# Altium schematic symbol library MB0025A.01.A.2.SchLib: 1 symbol
Pins are listed as number, name and electrical type; pins without a type are passive.

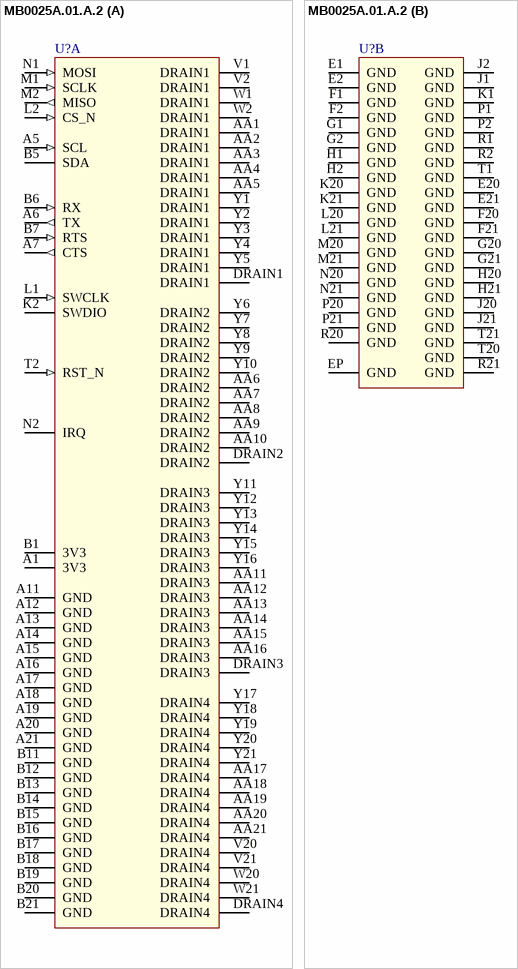
[diagram p0: symbol MB0025A.01.A.2]

## MB0025A.01.A.2
designator U?
part A pins: A1 3V3, A5 SCL (in), A6 TX (out), A7 CTS (out), A11 GND, A12 GND, A13 GND, A14 GND, A15 GND, A16 GND, A17 GND, A18 GND, A19 GND, A20 GND, A21 GND, AA1 DRAIN1, AA2 DRAIN1, AA3 DRAIN1, AA4 DRAIN1, AA5 DRAIN1, AA6 DRAIN2, AA7 DRAIN2, AA8 DRAIN2, AA9 DRAIN2, AA10 DRAIN2, AA11 DRAIN3, AA12 DRAIN3, AA13 DRAIN3, AA14 DRAIN3, AA15 DRAIN3, AA16 DRAIN3, AA17 DRAIN4, AA18 DRAIN4, AA19 DRAIN4, AA20 DRAIN4, AA21 DRAIN4, B1 3V3, B5 SDA, B6 RX (in), B7 RTS (in), B11 GND, B12 GND, B13 GND, B14 GND, B15 GND, B16 GND, B17 GND, B18 GND, B19 GND, B20 GND, B21 GND, DRAIN1, DRAIN2, DRAIN3, DRAIN4, K2 SWDIO, L1 SWCLK (in), L2 CS_N (in), M1 SCLK (in), M2 MISO (out), N1 MOSI (in), N2 IRQ, T2 RST_N (in), V1 DRAIN1, V2 DRAIN1, V20 DRAIN4, V21 DRAIN4, W1 DRAIN1, W2 DRAIN1, W20 DRAIN4, W21 DRAIN4, Y1 DRAIN1, Y2 DRAIN1, Y3 DRAIN1, Y4 DRAIN1, Y5 DRAIN1, Y6 DRAIN2, Y7 DRAIN2, Y8 DRAIN2, Y9 DRAIN2, Y10 DRAIN2, Y11 DRAIN3, Y12 DRAIN3, Y13 DRAIN3, Y14 DRAIN3, Y15 DRAIN3, Y16 DRAIN3, Y17 DRAIN4, Y18 DRAIN4, Y19 DRAIN4, Y20 DRAIN4, Y21 DRAIN4
part B pins: E1 GND (power), E2 GND (power), E20 GND (power), E21 GND (power), EP GND, F1 GND (power), F2 GND (power), F20 GND (power), F21 GND (power), G1 GND (power), G2 GND (power), G20 GND (power), G21 GND (power), H1 GND (power), H2 GND (power), H20 GND (power), H21 GND (power), J1 GND (power), J2 GND (power), J20 GND (power), J21 GND (power), K1 GND (power), K20 GND (power), K21 GND (power), L20 GND (power), L21 GND (power), M20 GND (power), M21 GND (power), N20 GND (power), N21 GND (power), P1 GND (power), P2 GND (power), P20 GND (power), P21 GND (power), R1 GND (power), R2 GND (power), R20 GND (power), R21 GND (power), T1 GND (power), T20 GND (power), T21 GND (power)